# EAGLE library part HCMODU0081 (library ali_exp_morsels)
HCMODU0081 hcmodu0081 rs485 RS485
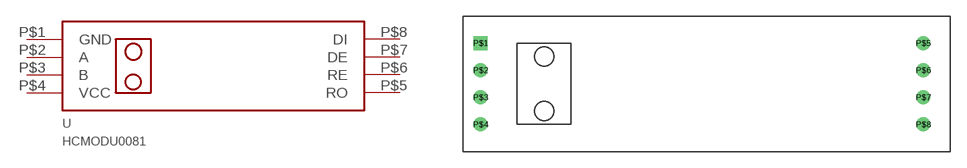
[diagram p1: symbol with the pads of HCMODU0081; footprint HCMODU0081]

Designator prefix -

## HCMODU0081  [HCMODU0081]
P$1  GND
P$2  A
P$3  B
P$4  VCC
P$5  RO
P$6  RE
P$7  DE
P$8  DI

## Footprint HCMODU0081 (pad centres in mm)
HCMODU0081 MAX RS485
drill 0.8 square: P$1 -41.5,0
drill 0.8: P$2 -41.5,-2.54; P$3 -41.5,-5.08; P$4 -41.5,-7.62; P$5 0,0; P$6 0,-2.54; P$7 0,-5.08; P$8 0,-7.62